# EAGLE library part AD1890 (library FreeSmartEEG)
SamplePort Stereo Asynchronous Sample Rate Converters Auto generated by make-symbol-device-package-bsdl.ulp Rev. 33 Source: http://www.analog.com/static/imported-files/data_sheets/AD1890_1891.pdf
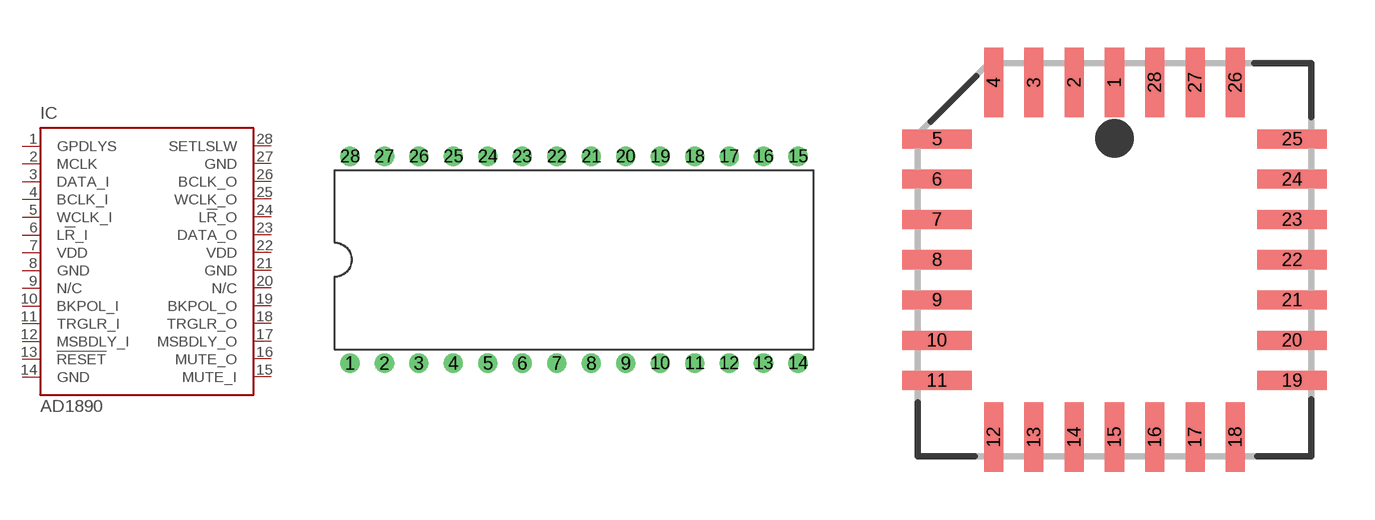
[diagram p75: symbol with the pads of DIL28-6; footprints DIL28-6, PLCC28S]

Designator prefix IC

## AD1890JN (OC_FARNELL: unknown; OC_NEWARK: unknown)  [DIL28-6]
1  GPDLYS  in
2  MCLK  in
3  DATA_I  in
4  BCLK_I  in
5  WCLK_I  in
6  L!R!_I  in
7  VDD  pwr
8  GND  pwr
9  N/C  nc
10  BKPOL_I  in
11  TRGLR_I  in
12  MSBDLY_I  in
13  !RESET  in
14  GND  pwr
15  MUTE_I  in
16  MUTE_O  out
17  MSBDLY_O  in
18  TRGLR_O  in
19  BKPOL_O  in
20  N/C  nc
21  GND  pwr
22  VDD  pwr
23  DATA_O  out
24  L!R!_O  in
25  WCLK_O  in
26  BCLK_O  in
27  GND  pwr
28  SETLSLW  in

## AD1890JP (MF: ALTERA CORPORATION; MPN: AD1890JP; OC_FARNELL: 1464273; OC_NEWARK: 66F1855)  [PLCC28S]
Pads as for DIL28-6

## Footprint DIL28-6 (pad centres in mm)
Dual In Line Package 0.6 inch
drill 0.813 pad 1.422: 1 -16.51,-7.62; 2 -13.97,-7.62; 3 -11.43,-7.62; 4 -8.89,-7.62; 5 -6.35,-7.62; 6 -3.81,-7.62; 7 -1.27,-7.62; 8 1.27,-7.62; 9 3.81,-7.62; 10 6.35,-7.62; 11 8.89,-7.62; 12 11.43,-7.62; 13 13.97,-7.62; 14 16.51,-7.62; 15 16.51,7.62; 16 13.97,7.62; 17 11.43,7.62; 18 8.89,7.62; 19 6.35,7.62; 20 3.81,7.62; 21 1.27,7.62; 22 -1.27,7.62; 23 -3.81,7.62; 24 -6.35,7.62; 25 -8.89,7.62; 26 -11.43,7.62; 27 -13.97,7.62; 28 -16.51,7.62

## Footprint PLCC28S (pad centres in mm)
PLASTIC LEADED CHIP CARRIER
smd 0.6 x 2.2: 1 0,5.6; 2 -1.27,5.6; 3 -2.54,5.6; 4 -3.81,5.6; 12 -3.81,-5.6; 13 -2.54,-5.6; 14 -1.27,-5.6; 15 0,-5.6; 16 1.27,-5.6; 17 2.54,-5.6; 18 3.81,-5.6; 26 3.81,5.6; 27 2.54,5.6; 28 1.27,5.6
smd 2.2 x 0.6: 5 -5.6,3.81; 6 -5.6,2.54; 7 -5.6,1.27; 8 -5.6,0; 9 -5.6,-1.27; 10 -5.6,-2.54; 11 -5.6,-3.81; 19 5.6,-3.81; 20 5.6,-2.54; 21 5.6,-1.27; 22 5.6,0; 23 5.6,1.27; 24 5.6,2.54; 25 5.6,3.81